# EAGLE library part CC2420 (library chips_old)
2.4 GHz IEEE 802.15.4 / ZigBee-ready RF Transceiver
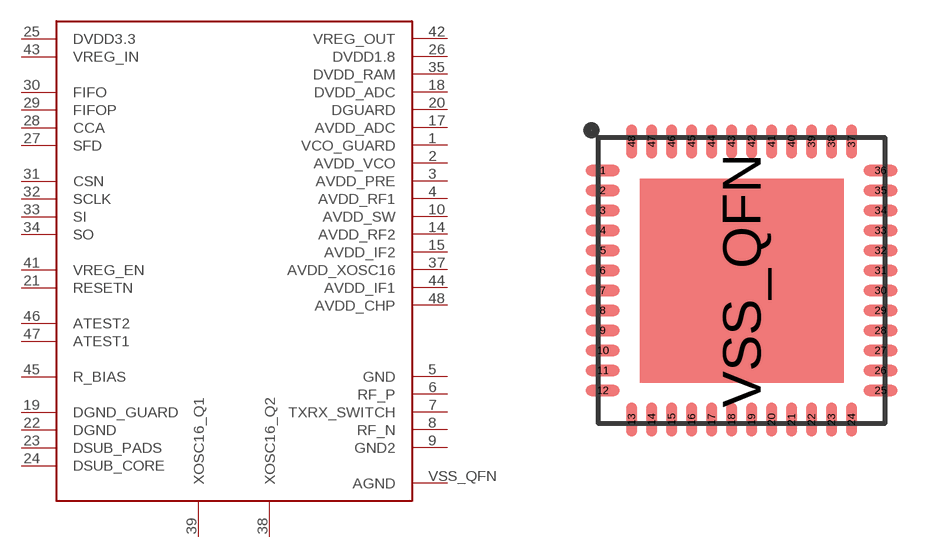
[diagram p7: symbol with the pads of S-PVQFN-N48; footprint S-PVQFN-N48]

Designator prefix U

## CC2420RGZ (DIGIKEY: 296-19585-1-ND)  [S-PVQFN-N48]
1  VCO_GUARD
2  AVDD_VCO
3  AVDD_PRE
4  AVDD_RF1
5  GND
6  RF_P
7  TXRX_SWITCH
8  RF_N
9  GND2
10  AVDD_SW
14  AVDD_RF2
15  AVDD_IF2
17  AVDD_ADC
18  DVDD_ADC
19  DGND_GUARD
20  DGUARD
21  RESETN
22  DGND
23  DSUB_PADS
24  DSUB_CORE
25  DVDD3.3
26  DVDD1.8
27  SFD
28  CCA
29  FIFOP
30  FIFO
31  CSN
32  SCLK
33  SI
34  SO
35  DVDD_RAM
37  AVDD_XOSC16
38  XOSC16_Q2
39  XOSC16_Q1
41  VREG_EN
42  VREG_OUT
43  VREG_IN
44  AVDD_IF1
45  R_BIAS
46  ATEST2
47  ATEST1
48  AVDD_CHP
VSS_QFN  AGND

## Footprint S-PVQFN-N48 (pad centres in mm)
TI RGZ Package
smd 0.85 x 0.28: 1 -3.475,2.75; 2 -3.475,2.25; 3 -3.475,1.75; 4 -3.475,1.25; 5 -3.475,0.75; 6 -3.475,0.25; 7 -3.475,-0.25; 8 -3.475,-0.75; 9 -3.475,-1.25; 10 -3.475,-1.75; 11 -3.475,-2.25; 12 -3.475,-2.75; 25 3.475,-2.75; 26 3.475,-2.25; 27 3.475,-1.75; 28 3.475,-1.25; 29 3.475,-0.75; 30 3.475,-0.25; 31 3.475,0.25; 32 3.475,0.75; 33 3.475,1.25; 34 3.475,1.75; 35 3.475,2.25; 36 3.475,2.75
smd 0.28 x 0.85: 13 -2.75,-3.475; 14 -2.25,-3.475; 15 -1.75,-3.475; 16 -1.25,-3.475; 17 -0.75,-3.475; 18 -0.25,-3.475; 19 0.25,-3.475; 20 0.75,-3.475; 21 1.25,-3.475; 22 1.75,-3.475; 23 2.25,-3.475; 24 2.75,-3.475; 37 2.75,3.475; 38 2.25,3.475; 39 1.75,3.475; 40 1.25,3.475; 41 0.75,3.475; 42 0.25,3.475; 43 -0.25,3.475; 44 -0.75,3.475; 45 -1.25,3.475; 46 -1.75,3.475; 47 -2.25,3.475; 48 -2.75,3.475
smd 5.1 x 5.1: VSS_QFN 0,0